# Altium schematic symbol library Transistor_FET.SchLib: 598 symbols (part 5 of 6)
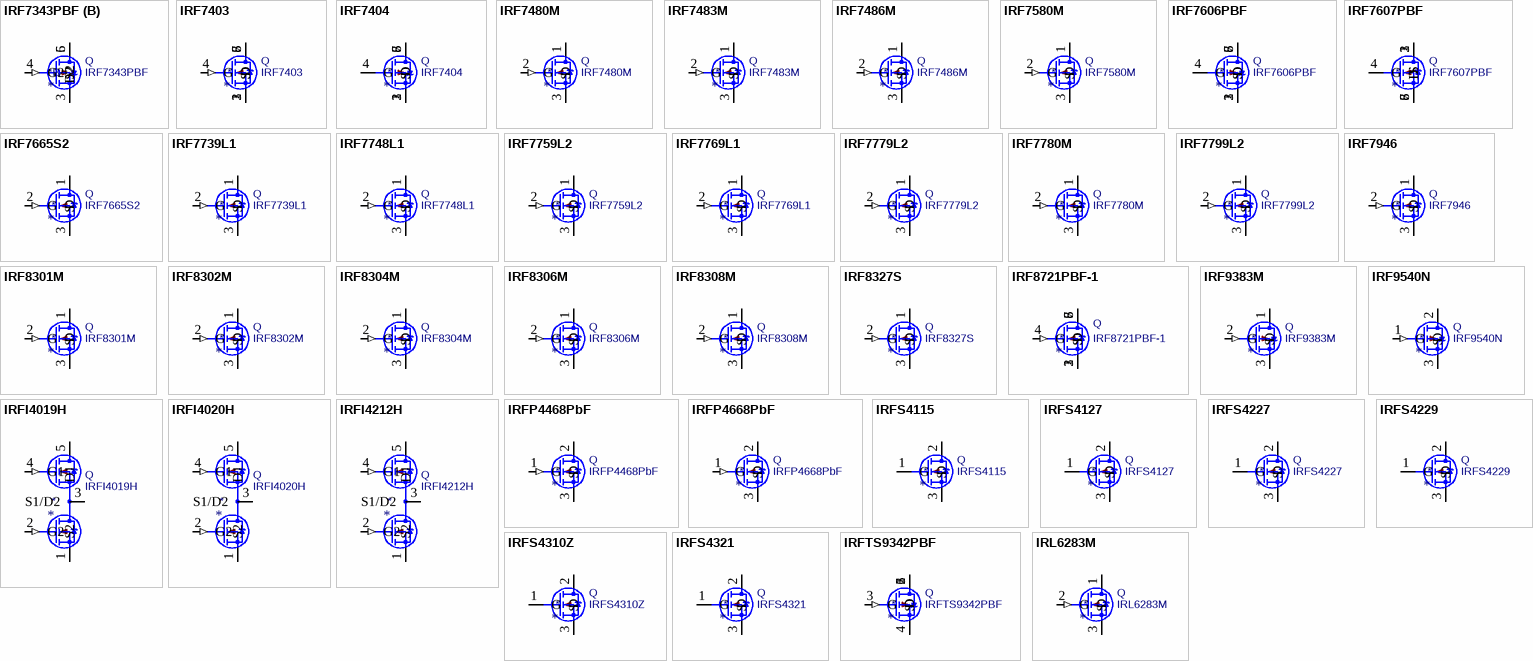
[diagram p20: symbols IRF7343PBF to IRL6283M]

## IRFS4321
designator *  value IRFS4321  Reference: Q
85A Id, 150V Vds, 12mOhm Rds, N-Channel HEXFET Power MOSFET, D2PAK; ki_keywords: N-Channel MOSFET HEXFET; ki_fp_filters: TO?263*; Footprint: Package_TO_SOT_SMD:TO-263-2; Datasheet: https://www.infineon.com/dgdl/irfs4321pbf.pdf?fileId=5546d462533600a40153563a20dd21ad; Description_: 85A Id, 150V Vds, 12mOhm Rds, N-Channel HEXFET Power MOSFET, D2PAK
pins: 1 G, 2 D, 3 S

## IRFTS9342PBF
designator *  value IRFTS9342PBF  Reference: Q
-5.8A Id, -30V Vds, 40mOhm Rds, P-Channel HEXFET Power MOSFET, TSOP-6; ki_keywords: P-Channel MOSFET HEXFET; ki_fp_filters: TSOP*1.65x3.05mm*P0.95mm*; Footprint: Package_SO:TSOP-6_1.65x3.05mm_P0.95mm; Datasheet: https://www.infineon.com/dgdl/irfts9342pbf.pdf?fileId=5546d462533600a40153563aeabc21f3; Description_: -5.8A Id, -30V Vds, 40mOhm Rds, P-Channel HEXFET Power MOSFET, TSOP-6
pins: 1 D, 2 D, 3 G (in), 4 S, 5 D, 6 D

## IRL6283M
designator *  value IRL6283M  Reference: Q
38A Id, 20V Vds, 0.75mOhm Rds, N-Channel HEXFET Power MOSFET, DirectFET MD; ki_keywords: N-Channel HEXFET MOSFET IRFET; ki_fp_filters: DirectFET*MD*; Footprint: Package_DirectFET:DirectFET_MD; Datasheet: https://www.infineon.com/dgdl/irl6283mpbf.pdf?fileId=5546d462533600a40153565fe9452573; Description_: 38A Id, 20V Vds, 0.75mOhm Rds, N-Channel HEXFET Power MOSFET, DirectFET MD
pins: 1 D, 2 G (in), 3 S

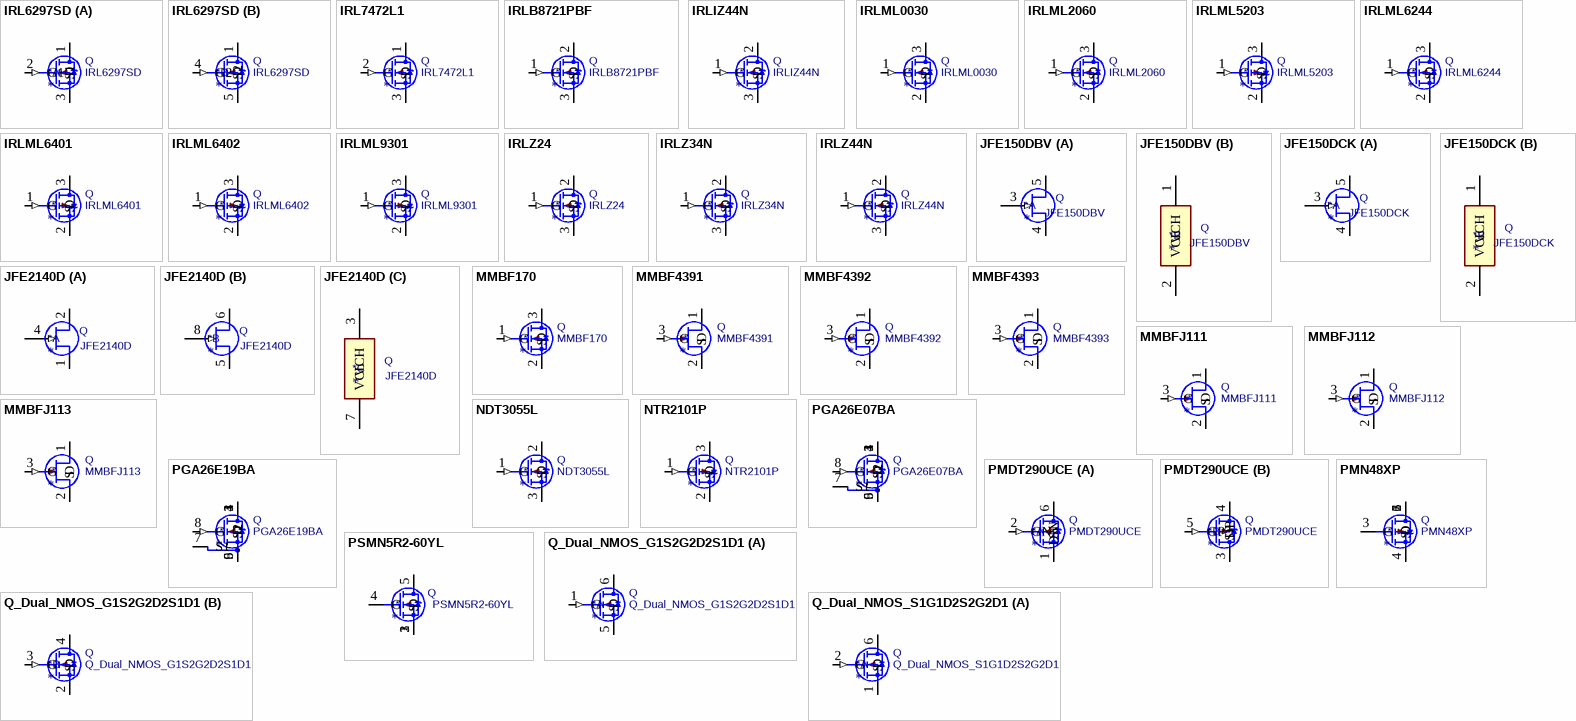
[diagram p12: symbols IRL6297SD to Q_Dual_NMOS_S1G1D2S2G2D1]

## IRL6297SD
designator *  value IRL6297SD  Reference: Q
15A Id, 20V Vds, 4.9mOhm Rds, Dual N-Channel HEXFET Power MOSFET, DirectFET SA; ki_keywords: Dual N-Channel HEXFET MOSFET Logic-Level; ki_fp_filters: DirectFET*SA*; Footprint: Package_DirectFET:DirectFET_SA; Datasheet: https://www.infineon.com/dgdl/irl6297sdpbf.pdf?fileId=5546d462533600a40153565ff22f2575; Description_: 15A Id, 20V Vds, 4.9mOhm Rds, Dual N-Channel HEXFET Power MOSFET, DirectFET SA
part A pins: 1 D, 2 G1 (in), 3 S1
part B pins: 1 D, 4 G2 (in), 5 S2

## IRL7472L1
designator *  value IRL7472L1  Reference: Q
375A Id, 40V Vds, 0.45mOhm Rds, N-Channel HEXFET Power MOSFET, DirectFET L8; ki_keywords: N-Channel HEXFET MOSFET Logic-Level IRFET; ki_fp_filters: DirectFET*L8*; Footprint: Package_DirectFET:DirectFET_L8; Datasheet: https://www.infineon.com/dgdl/Infineon-IRL7472L1-DS-v02_00-EN.pdf?fileId=5546d46254e133b401555d17178250d8; Description_: 375A Id, 40V Vds, 0.45mOhm Rds, N-Channel HEXFET Power MOSFET, DirectFET L8
pins: 1 D, 2 G (in), 3 S

## IRLB8721PBF
designator *  value IRLB8721PBF  Reference: Q
62A Id, 30V Vds, 8.7 mOhm Rds, N-Channel HEXFET Power MOSFET, TO-220; ki_keywords: N-Channel HEXFET MOSFET Logic-Level; ki_fp_filters: TO?220*; Footprint: Package_TO_SOT_THT:TO-220-3_Vertical; Datasheet: http://www.infineon.com/dgdl/irlb8721pbf.pdf?fileId=5546d462533600a40153566056732591; Description_: 62A Id, 30V Vds, 8.7 mOhm Rds, N-Channel HEXFET Power MOSFET, TO-220
pins: 1 G (in), 2 D, 3 S

## IRLIZ44N
designator *  value IRLIZ44N  Reference: Q
30A Id, 55V Vds, 22mOhm Rds, N-Channel HEXFET Power MOSFET, TO-220AB; ki_keywords: N-Channel HEXFET MOSFET Logic-Level; ki_fp_filters: TO?220F*; Footprint: Package_TO_SOT_THT:TO-220F-3_Vertical; Datasheet: http://www.irf.com/product-info/datasheets/data/irliz44n.pdf; Description_: 30A Id, 55V Vds, 22mOhm Rds, N-Channel HEXFET Power MOSFET, TO-220AB
pins: 1 G (in), 2 D, 3 S

## IRLML0030
designator *  value IRLML0030  Reference: Q
5.3A Id, 30V Vds, 27mOhm Rds, N-Channel HEXFET Power MOSFET, SOT-23; ki_keywords: N-Channel HEXFET MOSFET Logic-Level; ki_fp_filters: SOT?23*; Footprint: Package_TO_SOT_SMD:SOT-23; Datasheet: https://www.infineon.com/dgdl/irlml0030pbf.pdf?fileId=5546d462533600a401535664773825df; Description_: 5.3A Id, 30V Vds, 27mOhm Rds, N-Channel HEXFET Power MOSFET, SOT-23
pins: 1 G (in), 2 S, 3 D

## IRLML2060
designator *  value IRLML2060  Reference: Q
1.2A Id, 60V Vds, 480mOhm Rds, N-Channel HEXFET Power MOSFET, SOT-23; ki_keywords: N-Channel HEXFET MOSFET; ki_fp_filters: SOT?23*; Footprint: Package_TO_SOT_SMD:SOT-23; Datasheet: https://www.infineon.com/dgdl/irlml2060pbf.pdf?fileId=5546d462533600a401535664b7fb25ee; Description_: 1.2A Id, 60V Vds, 480mOhm Rds, N-Channel HEXFET Power MOSFET, SOT-23
pins: 1 G (in), 2 S, 3 D

## IRLML5203
designator *  value IRLML5203  Reference: Q
-3.0A Id, -30V Vds, 98mOhm Rds, P-Channel HEXFET Power MOSFET, SOT-23; ki_keywords: P-Channel HEXFET MOSFET; ki_fp_filters: SOT?23*; Footprint: Package_TO_SOT_SMD:SOT-23; Datasheet: https://www.infineon.com/dgdl/irlml5203pbf.pdf?fileId=5546d462533600a40153566868da261d; Description_: -3.0A Id, -30V Vds, 98mOhm Rds, P-Channel HEXFET Power MOSFET, SOT-23
pins: 1 G (in), 2 S, 3 D

## IRLML6244
designator *  value IRLML6244  Reference: Q
6.3A Id, 20V Vds, 21mOhm Rds, N-Channel StrongIRFET Power MOSFET, SOT-23; ki_keywords: N-Channel StrongIRFET MOSFET Load switch; ki_fp_filters: SOT?23*; Footprint: Package_TO_SOT_SMD:SOT-23; Datasheet: https://www.infineon.com/dgdl/Infineon-IRLML6244-DataSheet-v01_01-EN.pdf?fileId=5546d462533600a4015356686fed261f; Description_: 6.3A Id, 20V Vds, 21mOhm Rds, N-Channel StrongIRFET Power MOSFET, SOT-23
pins: 1 G (in), 2 S, 3 D

## IRLML6401
designator *  value IRLML6401  Reference: Q
-4.3A Id, -12V Vds, 50mOhm Rds, P-Channel HEXFET Power MOSFET, SOT-23; ki_keywords: P-Channel HEXFET MOSFET Logic-Level; ki_fp_filters: SOT?23*; Footprint: Package_TO_SOT_SMD:SOT-23; Datasheet: https://www.infineon.com/dgdl/irlml6401pbf.pdf?fileId=5546d462533600a401535668b96d2634; Description_: -4.3A Id, -12V Vds, 50mOhm Rds, P-Channel HEXFET Power MOSFET, SOT-23
pins: 1 G (in), 2 S, 3 D

## IRLML6402
designator *  value IRLML6402  Reference: Q
-3.7A Id, -20V Vds, 65mOhm Rds, P-Channel HEXFET Power MOSFET, SOT-23; ki_keywords: P-Channel HEXFET MOSFET; ki_fp_filters: SOT?23*; Footprint: Package_TO_SOT_SMD:SOT-23; Datasheet: https://www.infineon.com/dgdl/irlml6402pbf.pdf?fileId=5546d462533600a401535668d5c2263c; Description_: -3.7A Id, -20V Vds, 65mOhm Rds, P-Channel HEXFET Power MOSFET, SOT-23
pins: 1 G (in), 2 S, 3 D

## IRLML9301
designator *  value IRLML9301  Reference: Q
-3.6A Id, -30V Vds, 64mOhm Rds, P-Channel HEXFET Power MOSFET, SOT-23; ki_keywords: P-Channel HEXFET MOSFET Logic-Level; ki_fp_filters: SOT?23*; Footprint: Package_TO_SOT_SMD:SOT-23; Datasheet: https://www.infineon.com/dgdl/irlml9301pbf.pdf?fileId=5546d462533600a401535668e5e42640; Description_: -3.6A Id, -30V Vds, 64mOhm Rds, P-Channel HEXFET Power MOSFET, SOT-23
pins: 1 G (in), 2 S, 3 D

## IRLZ24
designator *  value IRLZ24  Reference: Q
17A Id, 60V Vds, N-Channel Power MOSFET, TO-220AB; ki_fp_filters: TO?220*; Footprint: Package_TO_SOT_THT:TO-220-3_Vertical; Datasheet: https://www.vishay.com/docs/91326/sihlz24.pdf; Description_: 17A Id, 60V Vds, N-Channel Power MOSFET, TO-220AB; ki_keywords: N-Channel Power MOSFET
pins: 1 G (in), 2 D, 3 S

## IRLZ34N
designator *  value IRLZ34N  Reference: Q
30A Id, 55V Vds, 35mOhm Rds, N-Channel HEXFET Power MOSFET, TO-220AB; ki_keywords: N-Channel HEXFET MOSFET Logic-Level; ki_fp_filters: TO?220*; Footprint: Package_TO_SOT_THT:TO-220-3_Vertical; Datasheet: http://www.infineon.com/dgdl/irlz34npbf.pdf?fileId=5546d462533600a40153567206892720; Description_: 30A Id, 55V Vds, 35mOhm Rds, N-Channel HEXFET Power MOSFET, TO-220AB
pins: 1 G (in), 2 D, 3 S

## IRLZ44N
designator *  value IRLZ44N  Reference: Q
47A Id, 55V Vds, 22mOhm Rds Single N-Channel HEXFET Power MOSFET, TO-220AB; ki_keywords: N-Channel HEXFET MOSFET Logic-Level; ki_fp_filters: TO?220*; Footprint: Package_TO_SOT_THT:TO-220-3_Vertical; Datasheet: http://www.irf.com/product-info/datasheets/data/irlz44n.pdf; Description_: 47A Id, 55V Vds, 22mOhm Rds Single N-Channel HEXFET Power MOSFET, TO-220AB
pins: 1 G (in), 2 D, 3 S

## JFE150DBV
designator *  value JFE150DBV  Reference: Q
Ultra-Low-Noise, Low-Gate-Current, Audio, N-Channel JFET, SOT-23-5; ki_keywords: low noise n-channel jfet; ki_fp_filters: SOT?23?5*; Footprint: Package_TO_SOT_SMD:SOT-23-5; Datasheet: https://www.ti.com/lit/ds/symlink/jfe150.pdf; Description_: Ultra-Low-Noise, Low-Gate-Current, Audio, N-Channel JFET, SOT-23-5
part A pins: 3 (in), 4, 5
part B pins: 1 VCH, 2 VCL

## JFE150DCK
designator *  value JFE150DCK  Reference: Q
Ultra-Low-Noise, Low-Gate-Current, Audio, N-Channel JFET, SC-70-5; ki_keywords: low noise n-channel jfet; ki_fp_filters: *SC?70?5*; Footprint: Package_TO_SOT_SMD:SOT-353_SC-70-5; Datasheet: https://www.ti.com/lit/ds/symlink/jfe150.pdf; Description_: Ultra-Low-Noise, Low-Gate-Current, Audio, N-Channel JFET, SC-70-5
part A pins: 3 (in), 4, 5
part B pins: 1 VCH, 2 VCL

## JFE2140D
designator *  value JFE2140D  Reference: Q
Ultra-Low Noise, Matched, Dual, Low-Gate Current, Discrete, Audio, N‑Channel JFET, SOIC-8; ki_keywords: low noise n-channel dual matched jfet; ki_fp_filters: SOIC?8*3.9x4.9mm*P1.27mm*; Footprint: Package_SO:SOIC-8_3.9x4.9mm_P1.27mm; Datasheet: https://www.ti.com/lit/ds/symlink/jfe2140.pdf; Description_: Ultra-Low Noise, Matched, Dual, Low-Gate Current, Discrete, Audio, N‑Channel JFET, SOIC-8
part A pins: 1, 2, 4 (in)
part B pins: 5, 6, 8 (in)
part C pins: 3 VCH, 7 VCL

## MMBF170
designator *  value MMBF170  Reference: Q
0.5A Id, 60V Vds, N-Channel MOSFET, SOT-23; ki_fp_filters: SOT?23*; Footprint: Package_TO_SOT_SMD:SOT-23; Datasheet: https://www.diodes.com/assets/Datasheets/ds30104.pdf; Description_: 0.5A Id, 60V Vds, N-Channel MOSFET, SOT-23; ki_keywords: N-Channel MOSFET
pins: 1 G (in), 2 S, 3 D

## MMBF4391
designator *  value MMBF4391  Reference: Q
50mA min, 30V, 30mOhm max, 4-10V Vgs(off), N-Channel JFET, SOT-23; ki_keywords: N-Channel FET Transistor; ki_fp_filters: SOT?23*; Footprint: Package_TO_SOT_SMD:SOT-23; Datasheet: https://www.onsemi.com/pub/Collateral/MMBF4391LT1-D.PDF; Description_: 50mA min, 30V, 30mOhm max, 4-10V Vgs(off), N-Channel JFET, SOT-23
pins: 1 D, 2 S, 3 G (in)

## MMBF4392
designator *  value MMBF4392  Reference: Q
25mA min, 30V, 60mOhm max, 2-5V Vgs(off), N-Channel JFET, SOT-23; ki_keywords: N-Channel FET Transistor; ki_fp_filters: SOT?23*; Footprint: Package_TO_SOT_SMD:SOT-23; Datasheet: https://www.onsemi.com/pub/Collateral/MMBF4391LT1-D.PDF; Description_: 25mA min, 30V, 60mOhm max, 2-5V Vgs(off), N-Channel JFET, SOT-23
pins: 1 D, 2 S, 3 G (in)

## MMBF4393
designator *  value MMBF4393  Reference: Q
5mA min, 30V, 100mOhm max, 0.5-3V Vgs(off), N-Channel JFET, SOT-23; ki_keywords: N-Channel FET Transistor; ki_fp_filters: SOT?23*; Footprint: Package_TO_SOT_SMD:SOT-23; Datasheet: https://www.onsemi.com/pub/Collateral/MMBF4391LT1-D.PDF; Description_: 5mA min, 30V, 100mOhm max, 0.5-3V Vgs(off), N-Channel JFET, SOT-23
pins: 1 D, 2 S, 3 G (in)

## MMBFJ111
designator *  value MMBFJ111  Reference: Q
20mA min, 35V, 30mOhm max, 3-10V Vgs(off), N-Channel JFET, SOT-23; ki_keywords: N-Channel FET Transistor; ki_fp_filters: SOT?23*; Footprint: Package_TO_SOT_SMD:SOT-23; Datasheet: https://www.onsemi.com/pub/Collateral/MMBFJ113-D.PDF; Description_: 20mA min, 35V, 30mOhm max, 3-10V Vgs(off), N-Channel JFET, SOT-23
pins: 1 D, 2 S, 3 G (in)

## MMBFJ112
designator *  value MMBFJ112  Reference: Q
5mA min, 35V, 50mOhm max, 1-5V Vgs(off), N-Channel JFET, SOT-23; ki_keywords: N-Channel FET Transistor; ki_fp_filters: SOT?23*; Footprint: Package_TO_SOT_SMD:SOT-23; Datasheet: https://www.onsemi.com/pub/Collateral/MMBFJ113-D.PDF; Description_: 5mA min, 35V, 50mOhm max, 1-5V Vgs(off), N-Channel JFET, SOT-23
pins: 1 D, 2 S, 3 G (in)

## MMBFJ113
designator *  value MMBFJ113  Reference: Q
2mA min, 35V, 100mOhm max, 0.5-3V Vgs(off), N-Channel JFET, SOT-23; ki_keywords: N-Channel FET Transistor; ki_fp_filters: SOT?23*; Footprint: Package_TO_SOT_SMD:SOT-23; Datasheet: https://www.onsemi.com/pub/Collateral/MMBFJ113-D.PDF; Description_: 2mA min, 35V, 100mOhm max, 0.5-3V Vgs(off), N-Channel JFET, SOT-23
pins: 1 D, 2 S, 3 G (in)

## NDT3055L
designator *  value NDT3055L  Reference: Q
4A Id, 60V Vds, N-Channel Logic Level Enhancement Mode MOSFET, SOT-223; ki_keywords: n channel fet; ki_fp_filters: SOT?223*; Footprint: Package_TO_SOT_SMD:SOT-223-3_TabPin2; Datasheet: https://www.onsemi.com/pdf/datasheet/ndt3055l-d.pdf; Description_: 4A Id, 60V Vds, N-Channel Logic Level Enhancement Mode MOSFET, SOT-223
pins: 1 G (in), 2 D, 3 S

## NTR2101P
designator *  value NTR2101P  Reference: Q
-3.7A Id, -8V Vds, P-Channel MOSFET, SOT-23; ki_fp_filters: SOT?23*; Footprint: Package_TO_SOT_SMD:SOT-23; Datasheet: http://www.onsemi.com/pub/Collateral/NTR2101P-D.PDF; Description_: -3.7A Id, -8V Vds, P-Channel MOSFET, SOT-23; ki_keywords: P-Channel MOSFET
pins: 1 G (in), 2 S, 3 D

## PGA26E07BA
designator *  value PGA26E07BA  Reference: Q
26A Id, 600V Vds, 56mOhm, N-Channel GaN MOSFET, DFN-8; ki_fp_filters: Panasonic*HSON*8x8mm*P2.00mm*; Footprint: Package_DFN_QFN:Panasonic_HSON-8_8x8mm_P2.00mm; Datasheet: https://industrial.panasonic.com/content/data/SC/ds/ds4/PGA26E07BA_E.pdf; Description_: 26A Id, 600V Vds, 56mOhm, N-Channel GaN MOSFET, DFN-8; ki_keywords: N-Channel GaN MOSFET
pins: 1 D, 2 D, 3 D, 4 D, 5 S2, 6 S2, 7 S1, 8 G (in), 9 S2

## PGA26E19BA
designator *  value PGA26E19BA  Reference: Q
13A Id, 600V Vds, 140mOhm, N-Channel GaN MOSFET, DFN-8; ki_fp_filters: Panasonic*HSON*8x8mm*P2.00mm*; Footprint: Package_DFN_QFN:Panasonic_HSON-8_8x8mm_P2.00mm; Datasheet: https://industrial.panasonic.com/content/data/SC/ds/ds4/PGA26E19BA_E.pdf; Description_: 13A Id, 600V Vds, 140mOhm, N-Channel GaN MOSFET, DFN-8; ki_keywords: N-Channel GaN MOSFET
pins: 1 D, 2 D, 3 D, 4 D, 5 S2, 6 S2, 7 S1, 8 G (in), 9 S2

## PMDT290UCE
designator *  value PMDT290UCE  Reference: Q
Nexperia 20 / 20 V, 800 / 550 mA N/P-channel Trench MOSFET, SOT-666; ki_keywords: Trench MOSFET complementary nmos pmos nexperia; ki_fp_filters: SOT?666*; Footprint: Package_TO_SOT_SMD:SOT-666; Datasheet: https://assets.nexperia.com/documents/data-sheet/PMDT290UCE.pdf; Description_: Nexperia 20 / 20 V, 800 / 550 mA N/P-channel Trench MOSFET, SOT-666
part A pins: 1 SN, 2 GN (in), 6 DN
part B pins: 3 DP, 4 SP, 5 GP (in)

## PMN48XP
designator *  value PMN48XP  Reference: Q
-4.1A Id, -20V Vds, P-Channel Power MOSFET, 48mOhm Ron, TSOP-6; ki_keywords: P-Channel MOSFET; ki_fp_filters: TSOP*1.65x3.05mm*P0.95mm*; Footprint: Package_SO:TSOP-6_1.65x3.05mm_P0.95mm; Datasheet: https://assets.nexperia.com/documents/data-sheet/PMN48XP.pdf; Description_: -4.1A Id, -20V Vds, P-Channel Power MOSFET, 48mOhm Ron, TSOP-6
pins: 1 D, 2 D, 3 G, 4 S, 5 D, 6 D

## PSMN5R2-60YL
designator *  value PSMN5R2-60YL  Reference: Q
100A, 60V Vds, N-Channel MOSFET, 5.2mOhm Ron, LFPAK56; ki_fp_filters: LFPAK56*; Footprint: Package_TO_SOT_SMD:LFPAK56; Datasheet: https://assets.nexperia.com/documents/data-sheet/PSMN5R2-60YL.pdf; Description_: 100A, 60V Vds, N-Channel MOSFET, 5.2mOhm Ron, LFPAK56; ki_keywords: N-Channel MOSFET
pins: 1 S, 2 S, 3 S, 4 G, 5 D

## Q_Dual_NMOS_G1S2G2D2S1D1
designator *  value Q_Dual_NMOS_G1S2G2D2S1D1  Reference: Q
Dual NMOS transistor, 6 pin package; ki_keywords: transistor NMOS N-MOS N-MOSFET; Datasheet: ~; Description_: Dual NMOS transistor, 6 pin package
part A pins: 1 G (in), 5 S, 6 D
part B pins: 2 S, 3 G (in), 4 D

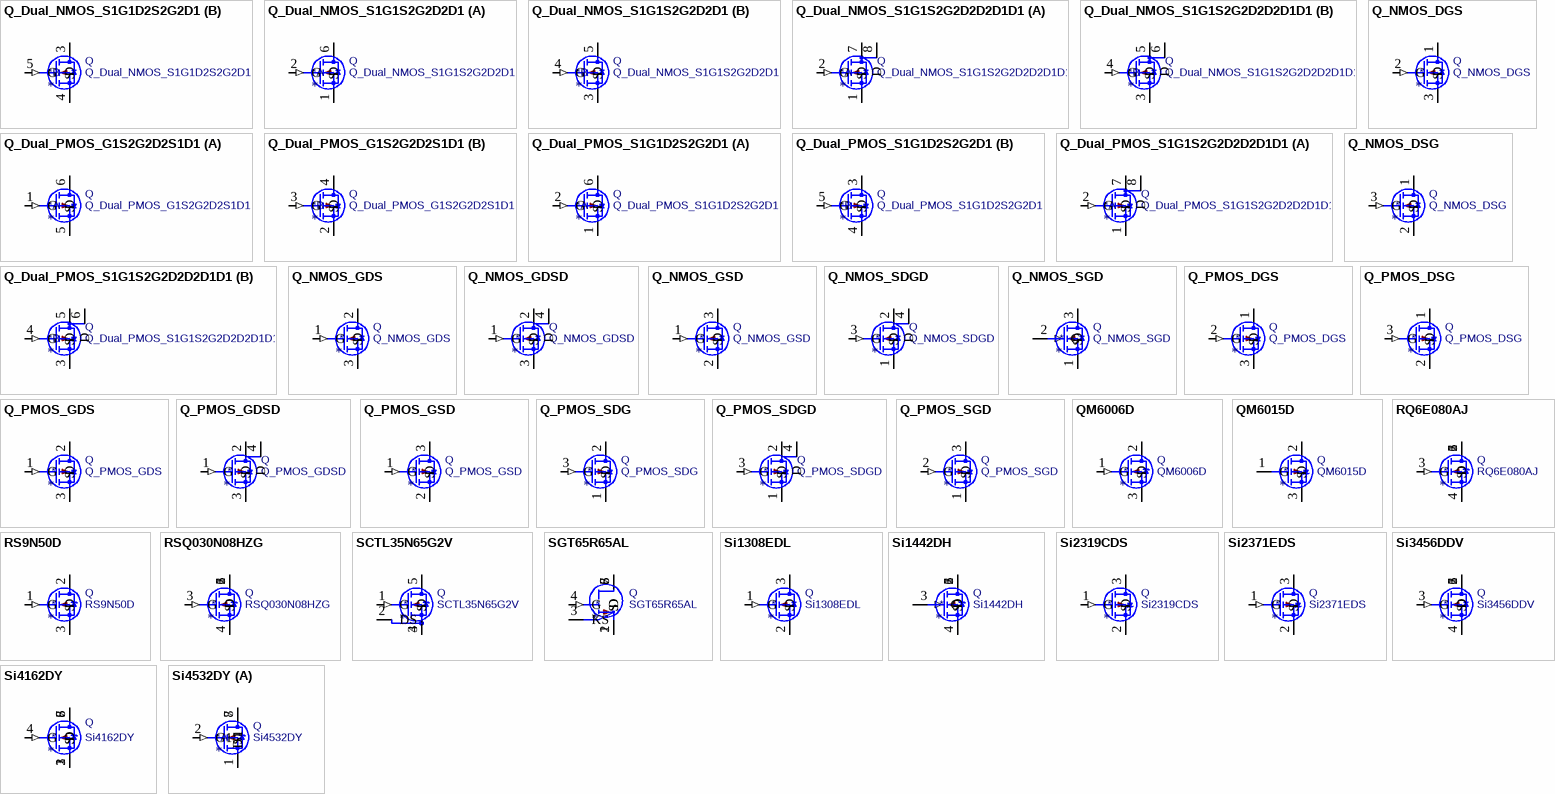
[diagram p13: symbols Q_Dual_NMOS_S1G1D2S2G2D1 to Si4532DY]

## Q_Dual_NMOS_S1G1D2S2G2D1
designator *  value Q_Dual_NMOS_S1G1D2S2G2D1  Reference: Q
Dual NMOS transistor, 6 pin package; ki_keywords: transistor NMOS N-MOS N-MOSFET; Datasheet: ~; Description_: Dual NMOS transistor, 6 pin package
part A pins: 1 S, 2 G (in), 6 D
part B pins: 3 D, 4 S, 5 G (in)

## Q_Dual_NMOS_S1G1S2G2D2D1
designator *  value Q_Dual_NMOS_S1G1S2G2D2D1  Reference: Q
Dual NMOS transistor, 6 pin package; ki_keywords: transistor NMOS N-MOS N-MOSFET; Datasheet: ~; Description_: Dual NMOS transistor, 6 pin package
part A pins: 1 S, 2 G (in), 6 D
part B pins: 3 S, 4 G (in), 5 D

## Q_Dual_NMOS_S1G1S2G2D2D2D1D1
designator *  value Q_Dual_NMOS_S1G1S2G2D2D2D1D1  Reference: Q
Dual NMOS transistor, 8 pin package; ki_keywords: transistor NMOS N-MOS N-MOSFET; Datasheet: ~; Description_: Dual NMOS transistor, 8 pin package
part A pins: 1 S, 2 G (in), 7 D, 8 D
part B pins: 3 S, 4 G (in), 5 D, 6 D

## Q_Dual_PMOS_G1S2G2D2S1D1
designator *  value Q_Dual_PMOS_G1S2G2D2S1D1  Reference: Q
Dual PMOS transistor, 6 pin package; ki_keywords: transistor PMOS P-MOS P-MOSFET; Datasheet: ~; Description_: Dual PMOS transistor, 6 pin package
part A pins: 1 G (in), 5 S, 6 D
part B pins: 2 S, 3 G (in), 4 D

## Q_Dual_PMOS_S1G1D2S2G2D1
designator *  value Q_Dual_PMOS_S1G1D2S2G2D1  Reference: Q
Dual PMOS transistor, 6 pin package; ki_keywords: transistor PMOS P-MOS P-MOSFET; Datasheet: ~; Description_: Dual PMOS transistor, 6 pin package
part A pins: 1 S, 2 G (in), 6 D
part B pins: 3 D, 4 S, 5 G (in)

## Q_Dual_PMOS_S1G1S2G2D2D2D1D1
designator *  value Q_Dual_PMOS_S1G1S2G2D2D2D1D1  Reference: Q
Dual PMOS transistor, 8 pin package; ki_keywords: transistor PMOS P-MOS P-MOSFET; Datasheet: ~; Description_: Dual PMOS transistor, 8 pin package
part A pins: 1 S, 2 G (in), 7 D, 8 D
part B pins: 3 S, 4 G (in), 5 D, 6 D

## Q_NMOS_DGS
designator *  value Q_NMOS_DGS  Reference: Q
N-MOSFET transistor, drain/gate/source; ki_keywords: transistor NMOS N-MOS N-MOSFET; Datasheet: ~; Description_: N-MOSFET transistor, drain/gate/source
pins: 1 D, 2 G (in), 3 S

## Q_NMOS_DSG
designator *  value Q_NMOS_DSG  Reference: Q
N-MOSFET transistor, drain/source/gate; ki_keywords: transistor NMOS N-MOS N-MOSFET; Datasheet: ~; Description_: N-MOSFET transistor, drain/source/gate
pins: 1 D, 2 S, 3 G (in)

## Q_NMOS_GDS
designator *  value Q_NMOS_GDS  Reference: Q
N-MOSFET transistor, gate/drain/source; ki_keywords: transistor NMOS N-MOS N-MOSFET; Datasheet: ~; Description_: N-MOSFET transistor, gate/drain/source
pins: 1 G (in), 2 D, 3 S

## Q_NMOS_GDSD
designator *  value Q_NMOS_GDSD  Reference: Q
N-MOSFET transistor, gate/drain/source, drain connected to mounting plane; ki_keywords: transistor NMOS N-MOS N-MOSFET; Datasheet: ~; Description_: N-MOSFET transistor, gate/drain/source, drain connected to mounting plane
pins: 1 G (in), 2 D, 3 S, 4 D

## Q_NMOS_GSD
designator *  value Q_NMOS_GSD  Reference: Q
N-MOSFET transistor, gate/source/drain; ki_keywords: transistor NMOS N-MOS N-MOSFET; Datasheet: ~; Description_: N-MOSFET transistor, gate/source/drain
pins: 1 G (in), 2 S, 3 D

## Q_NMOS_SDGD
designator *  value Q_NMOS_SDGD  Reference: Q
N-MOSFET transistor, source/drain/gate, drain connected to mounting plane; ki_keywords: transistor NMOS N-MOS N-MOSFET; Datasheet: ~; Description_: N-MOSFET transistor, source/drain/gate, drain connected to mounting plane
pins: 1 S, 2 D, 3 G (in), 4 D

## Q_NMOS_SGD
designator *  value Q_NMOS_SGD  Reference: Q
N-MOSFET transistor, source/gate/drain; ki_keywords: transistor NMOS N-MOS N-MOSFET; Datasheet: ~; Description_: N-MOSFET transistor, source/gate/drain
pins: 1 S, 2 G (in), 3 D

## Q_PMOS_DGS
designator *  value Q_PMOS_DGS  Reference: Q
P-MOSFET transistor, drain/gate/source; ki_keywords: transistor PMOS P-MOS P-MOSFET; Datasheet: ~; Description_: P-MOSFET transistor, drain/gate/source
pins: 1 D, 2 G (in), 3 S

## Q_PMOS_DSG
designator *  value Q_PMOS_DSG  Reference: Q
P-MOSFET transistor, drain/source/gate; ki_keywords: transistor PMOS P-MOS P-MOSFET; Datasheet: ~; Description_: P-MOSFET transistor, drain/source/gate
pins: 1 D, 2 S, 3 G (in)

## Q_PMOS_GDS
designator *  value Q_PMOS_GDS  Reference: Q
P-MOSFET transistor, gate/drain/source; ki_keywords: transistor PMOS P-MOS P-MOSFET; Datasheet: ~; Description_: P-MOSFET transistor, gate/drain/source
pins: 1 G (in), 2 D, 3 S

## Q_PMOS_GDSD
designator *  value Q_PMOS_GDSD  Reference: Q
P-MOSFET transistor, gate/drain/source, drain connected to mounting plane; ki_keywords: transistor PMOS P-MOS P-MOSFET; Datasheet: ~; Description_: P-MOSFET transistor, gate/drain/source, drain connected to mounting plane
pins: 1 G (in), 2 D, 3 S, 4 D

## Q_PMOS_GSD
designator *  value Q_PMOS_GSD  Reference: Q
P-MOSFET transistor, gate/source/drain; ki_keywords: transistor PMOS P-MOS P-MOSFET; Datasheet: ~; Description_: P-MOSFET transistor, gate/source/drain
pins: 1 G (in), 2 S, 3 D

## Q_PMOS_SDG
designator *  value Q_PMOS_SDG  Reference: Q
P-MOSFET transistor, source/drain/gate; ki_keywords: transistor PMOS P-MOS P-MOSFET; Datasheet: ~; Description_: P-MOSFET transistor, source/drain/gate
pins: 1 S, 2 D, 3 G (in)

## Q_PMOS_SDGD
designator *  value Q_PMOS_SDGD  Reference: Q
P-MOSFET transistor, source/drain/gate, drain connected to mounting plane; ki_keywords: transistor PMOS P-MOS P-MOSFET; Datasheet: ~; Description_: P-MOSFET transistor, source/drain/gate, drain connected to mounting plane
pins: 1 S, 2 D, 3 G (in), 4 D

## Q_PMOS_SGD
designator *  value Q_PMOS_SGD  Reference: Q
P-MOSFET transistor, source/gate/drain; ki_keywords: transistor PMOS P-MOS P-MOSFET; Datasheet: ~; Description_: P-MOSFET transistor, source/gate/drain
pins: 1 S, 2 G (in), 3 D

## QM6006D
designator *  value QM6006D  Reference: Q
35A Id, 60V Vds, N-Channel Power MOSFET, 18mOhm Ron, 19.3nC Qg (typ), TO252; ki_keywords: N-Channel MOSFET; ki_fp_filters: TO?252*; Footprint: Package_TO_SOT_SMD:TO-252-2; Datasheet: http://www.jaolen.com/images/pdf/QM6006D.pdf; Description_: 35A Id, 60V Vds, N-Channel Power MOSFET, 18mOhm Ron, 19.3nC Qg (typ), TO252
pins: 1 G (in), 2 D, 3 S

## QM6015D
designator *  value QM6015D  Reference: Q
-35A Id, -60V Vds, P-Channel Power MOSFET, 25mOhm Ron, 25.0nC Qg (typ), TO252; ki_keywords: P-Channel MOSFET; ki_fp_filters: TO?252*; Footprint: Package_TO_SOT_SMD:TO-252-2; Datasheet: http://www.jaolen.com/images/pdf/QM6015D.pdf; Description_: -35A Id, -60V Vds, P-Channel Power MOSFET, 25mOhm Ron, 25.0nC Qg (typ), TO252
pins: 1 G, 2 D, 3 S

## RQ6E080AJ
designator *  value RQ6E080AJ  Reference: Q
8A Id, 30V Vds, 16.5 mOhm RdsOn, N-Channel Small-Signal MOSFET, TSOT-23-6; ki_keywords: N-Channel MOSFET Low-Threshold sot-457t sc-95 tsmt6; ki_fp_filters: TSOT?23*; Footprint: Package_TO_SOT_SMD:TSOT-23-6; Datasheet: https://fscdn.rohm.com/en/products/databook/datasheet/discrete/transistor/mosfet/rq6e080ajtcr-e.pdf; Description_: 8A Id, 30V Vds, 16.5 mOhm RdsOn, N-Channel Small-Signal MOSFET, TSOT-23-6
pins: 1 D, 2 D, 3 G (in), 4 S, 5 D, 6 D

## RS9N50D
designator *  value RS9N50D  Reference: Q
9A Id, 500V Vds, N-Channel Power MOSFET, 650mOhm Ron, 22nC Qg (typ), TO252; ki_keywords: NFET high voltage; ki_fp_filters: TO?252*; Footprint: Package_TO_SOT_SMD:TO-252-2; Datasheet: https://www.denovocn.com/sites/default/files/RS9N50D.pdf; Description_: 9A Id, 500V Vds, N-Channel Power MOSFET, 650mOhm Ron, 22nC Qg (typ), TO252
pins: 1 G (in), 2 D, 3 S

## RSQ030N08HZG
designator *  value RSQ030N08HZG  Reference: Q
3A Id, 80V Vds, 131 mOhm RdsOn, N-Channel Small-Signal MOSFET, Body and ESD Diode, TSOT-23-6; ki_keywords: nchan low threshold sot 457t sc 95 tsmt6; ki_fp_filters: TSOT?23*; Footprint: Package_TO_SOT_SMD:TSOT-23-6; Datasheet: https://fscdn.rohm.com/en/products/databook/datasheet/discrete/transistor/mosfet/rsq030n08hzgtr-e.pdf; Description_: 3A Id, 80V Vds, 131 mOhm RdsOn, N-Channel Small-Signal MOSFET, Body and ESD Diode, TSOT-23-6
pins: 1 D, 2 D, 3 G (in), 4 S, 5 D, 6 D

## SCTL35N65G2V
designator *  value SCTL35N65G2V  Reference: Q
Silicon carbide Power MOSFET 650 V, 55 mΩ typ., 40 A, ST_PowerFLAT_HV-5; ki_keywords: N-Channel SiC MOSFET; ki_fp_filters: ST?PowerFLAT?HV*8x8mm*; Footprint: Package_SON:ST_PowerFLAT_HV-5_8x8mm; Datasheet: https://www.st.com/resource/en/datasheet/sctl35n65g2v.pdf; Description_: Silicon carbide Power MOSFET 650 V, 55 mΩ typ., 40 A, ST_PowerFLAT_HV-5
pins: 1 G (in), 2 DS, 3 S, 4 S, 5 D

## SGT65R65AL
designator *  value SGT65R65AL  Reference: Q
650V, 49mΩ typ., 25A Id, enhancement mode PowerGaN transistor, ST_PowerFLAT_HV-8; ki_keywords: gan hemt bottom-side-cooled e-mode kelvin; ki_fp_filters: ST?PowerFLAT?HV*5x6mm*; Footprint: Package_SON:ST_PowerFLAT_HV-8_5x6mm; Datasheet: https://www.st.com/resource/en/datasheet/sgt65r65al.pdf; Description_: 650V, 49mΩ typ., 25A Id, enhancement mode PowerGaN transistor, ST_PowerFLAT_HV-8
pins: 1 S, 2 S, 3 KS, 4 G (in), 5 D, 6 D, 7 D, 8 D

## Si1308EDL
designator *  value Si1308EDL  Reference: Q
30V Vds, 1.4A Id, N-Channel MOSFET, SC-70; ki_fp_filters: SOT?323*; Footprint: Package_TO_SOT_SMD:SOT-323_SC-70; Datasheet: https://www.vishay.com/docs/63399/si1308edl.pdf; Description_: 30V Vds, 1.4A Id, N-Channel MOSFET, SC-70; ki_keywords: N-Channel MOSFET
pins: 1 G (in), 2 S, 3 D

## Si1442DH
designator *  value Si1442DH  Reference: Q
12V Vds, TrenchFET N-Channel Power MOSFET, SC-70-6; ki_fp_filters: SOT?363*; Footprint: Package_TO_SOT_SMD:SOT-363_SC-70-6; Datasheet: http://www.vishay.com/docs/63772/si1442dh.pdf; Description_: 12V Vds, TrenchFET N-Channel Power MOSFET, SC-70-6; ki_keywords: TrenchFET N-Channel Power MOSFET
pins: 1 D, 2 D, 3 G (in), 4 S, 5 D, 6 D

## Si2319CDS
designator *  value Si2319CDS  Reference: Q
-4.4A Id, -40V Vds, P-Channel MOSFET, SOT-23; ki_fp_filters: SOT?23*; Footprint: Package_TO_SOT_SMD:SOT-23; Datasheet: http://www.vishay.com/docs/66709/si2319cd.pdf; Description_: -4.4A Id, -40V Vds, P-Channel MOSFET, SOT-23; ki_keywords: P-Channel MOSFET
pins: 1 G (in), 2 S, 3 D

## Si2371EDS
designator *  value Si2371EDS  Reference: Q
-3.6A Id, -30V Vds, P-Channel MOSFET, SOT-23; ki_fp_filters: SOT?23*; Footprint: Package_TO_SOT_SMD:SOT-23; Datasheet: http://www.vishay.com/docs/63924/si2371eds.pdf; Description_: -3.6A Id, -30V Vds, P-Channel MOSFET, SOT-23; ki_keywords: P-Channel MOSFET
pins: 1 G (in), 2 S, 3 D

## Si3456DDV
designator *  value Si3456DDV  Reference: Q
30V Vds, 6.3A Id, N-Channel MOSFET, TSOP-6; ki_fp_filters: TSOP*1.65x3.05mm*P0.95mm*; Footprint: Package_SO:TSOP-6_1.65x3.05mm_P0.95mm; Datasheet: https://www.vishay.com/docs/69075/si3456ddv.pdf; Description_: 30V Vds, 6.3A Id, N-Channel MOSFET, TSOP-6; ki_keywords: N-Channel MOSFET
pins: 1 D, 2 D, 3 G (in), 4 S, 5 D, 6 D

## Si4162DY
designator *  value Si4162DY  Reference: Q
19.3A Id, 30V Vds, TrenchFET N-Channel Power MOSFET, SO-8; ki_keywords: N-Channel MOSFET; ki_fp_filters: SOIC*3.9x4.9mm*P1.27mm*; Footprint: Package_SO:SOIC-8_3.9x4.9mm_P1.27mm; Datasheet: http://www.vishay.com/docs/68967/si4162dy.pdf; Description_: 19.3A Id, 30V Vds, TrenchFET N-Channel Power MOSFET, SO-8
pins: 1 S, 2 S, 3 S, 4 G (in), 5 D, 6 D, 7 D, 8 D

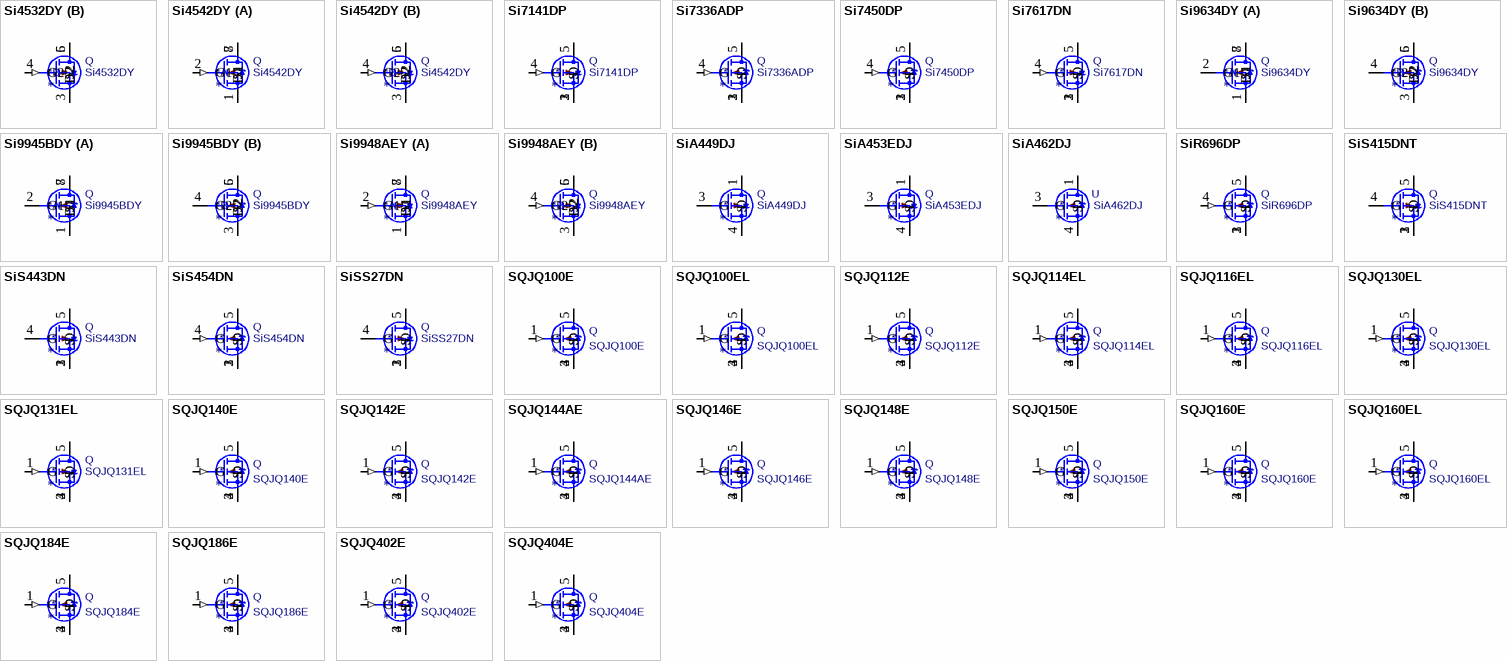
[diagram p14: symbols Si4532DY to SQJQ404E]

## Si4532DY
designator *  value Si4532DY  Reference: Q
3.9A Id, 30V Vds, Dual N and P Channel MOSFET, 65mOhm Ron, 10V Vgs, SO8L; ki_keywords: Dual N-Channel P-Channel MOSFET; ki_fp_filters: SOIC*3.9x4.9mm*P1.27mm*; Footprint: Package_SO:SOIC-8_3.9x4.9mm_P1.27mm; Datasheet: https://www.onsemi.com/pub/Collateral/SI4532DY-D.PDF; Description_: 3.9A Id, 30V Vds, Dual N and P Channel MOSFET, 65mOhm Ron, 10V Vgs, SO8L
part A pins: 1 S1, 2 G1 (in), 7 D1, 8 D1
part B pins: 3 S2, 4 G2 (in), 5 D2, 6 D2

## Si4542DY
designator *  value Si4542DY  Reference: Q
Dual N and P Channel MOSFET, 6A Id, 30V Vds, 28mOhm Ron, 10V Vgs, SO8L; ki_keywords: Dual N-Channel P-Channel MOSFET; ki_fp_filters: SOIC*3.9x4.9mm*P1.27mm*; Footprint: Package_SO:SOIC-8_3.9x4.9mm_P1.27mm; Datasheet: https://www.onsemi.com/pub/Collateral/SI4542DY-D.PDF; Description_: Dual N and P Channel MOSFET, 6A Id, 30V Vds, 28mOhm Ron, 10V Vgs, SO8L
part A pins: 1 S1, 2 G1 (in), 7 D1, 8 D1
part B pins: 3 S2, 4 G2 (in), 5 D2, 6 D2

## Si7141DP
designator *  value Si7141DP  Reference: Q
-60A Id, -20V Vds, 1.9 mOhm Ron, PowerPAK-8; ki_keywords: P-Channel MOSFET; ki_fp_filters: PowerPAK*SO*Single*; Footprint: Package_SO:PowerPAK_SO-8_Single; Datasheet: https://www.vishay.com/docs/65596/si7141dp.pdf; Description_: -60A Id, -20V Vds, 1.9 mOhm Ron, PowerPAK-8
pins: 1 S, 2 S, 3 S, 4 G (in), 5 D

## Si7336ADP
designator *  value Si7336ADP  Reference: Q
30A Id, 30V Vds, 2.4mOhm Ron, PowerPAK-8; ki_keywords: N-Channel MOSFET; ki_fp_filters: PowerPAK*SO*Single*; Footprint: Package_SO:PowerPAK_SO-8_Single; Datasheet: https://www.vishay.com/docs/73152/si7336adp.pdf; Description_: 30A Id, 30V Vds, 2.4mOhm Ron, PowerPAK-8
pins: 1 S, 2 S, 3 S, 4 G (in), 5 D

## Si7450DP
designator *  value Si7450DP  Reference: Q
5.3A Id, 200V Vds, 80mOhm Ron, PowerPAK-8; ki_keywords: N-Channel MOSFET; ki_fp_filters: PowerPAK*SO*Single*; Footprint: Package_SO:PowerPAK_SO-8_Single; Datasheet: https://www.vishay.com/docs/71432/si7450dp.pdf; Description_: 5.3A Id, 200V Vds, 80mOhm Ron, PowerPAK-8
pins: 1 S, 2 S, 3 S, 4 G (in), 5 D

## Si7617DN
designator *  value Si7617DN  Reference: Q
-35A Id, -30V Vds, 0.0123 Ohm Ron, PowerPAK-8; ki_keywords: P-Channel MOSFET; ki_fp_filters: Vishay*PowerPAK*1212*Single*; Footprint: Package_SO:Vishay_PowerPAK_1212-8_Single; Datasheet: https://www.vishay.com/docs/65164/si7617dn.pdf; Description_: -35A Id, -30V Vds, 0.0123 Ohm Ron, PowerPAK-8
pins: 1 S, 2 S, 3 S, 4 G (in), 5 D

## Si9634DY
designator *  value Si9634DY  Reference: Q
Dual N-Channel MOSFET, 8A Id, 60V Vds, 0.029 ohms Rds(on), SOIC-8; ki_keywords: Vishay Siliconix TrenchFET; ki_fp_filters: *SOIC*3.9x4.9mm*P1.27mm*; Footprint: Package_SO:SOIC-8_3.9x4.9mm_P1.27mm; Datasheet: https://www.vishay.com/docs/62114/si9634dy.pdf; Description_: Dual N-Channel MOSFET, 8A Id, 60V Vds, 0.029 ohms Rds(on), SOIC-8
part A pins: 1 S1, 2 G1, 7 D1, 8 D1
part B pins: 3 S2, 4 G2, 5 D2, 6 D2

## Si9945BDY
designator *  value Si9945BDY  Reference: Q
Dual N-Channel MOSFET, 5.3A Id, 60V Vds, 0.058 ohms Rds(on), SOIC-8; ki_keywords: Vishay Siliconix TrenchFET; ki_fp_filters: *SOIC*3.9x4.9mm*P1.27mm*; Footprint: Package_SO:SOIC-8_3.9x4.9mm_P1.27mm; Datasheet: https://www.vishay.com/docs/64737/si9945bdy.pdf; Description_: Dual N-Channel MOSFET, 5.3A Id, 60V Vds, 0.058 ohms Rds(on), SOIC-8
part A pins: 1 S1, 2 G1, 7 D1, 8 D1
part B pins: 3 S2, 4 G2, 5 D2, 6 D2

## Si9948AEY
designator *  value Si9948AEY  Reference: Q
Dual P-Channel MOSFET, ±2.6A Id, -60V Vds, 0.17 ohms Rds(on), SOIC-8; ki_keywords: Vishay Siliconix TrenchFET; ki_fp_filters: *SOIC*3.9x4.9mm*P1.27mm*; Footprint: Package_SO:SOIC-8_3.9x4.9mm_P1.27mm; Datasheet: https://www.mouser.com/datasheet/2/427/si9948ae-1765388.pdf; Description_: Dual P-Channel MOSFET, ±2.6A Id, -60V Vds, 0.17 ohms Rds(on), SOIC-8
part A pins: 1 S1, 2 G1 (in), 7 D1, 8 D1
part B pins: 3 S2, 4 G2 (in), 5 D2, 6 D2

## SiA449DJ
designator *  value SiA449DJ  Reference: Q
-12A Id, -30V Vds, P-Channel MOSFET, PowerPAK SC70-6; ki_fp_filters: Vishay*PowerPAK*SC70*Single*; Footprint: Package_TO_SOT_SMD:Vishay_PowerPAK_SC70-6L_Single; Datasheet: http://www.vishay.com/docs/62644/sia449dj.pdf; Description_: -12A Id, -30V Vds, P-Channel MOSFET, PowerPAK SC70-6; ki_keywords: P-Channel MOSFET
pins: 1 D, 3 G, 4 S

## SiA453EDJ
designator *  value SiA453EDJ  Reference: Q
-10A Id, -30V Vds, P-Channel MOSFET; ki_fp_filters: Vishay*PowerPAK*SC70*Single*; Footprint: Package_TO_SOT_SMD:Vishay_PowerPAK_SC70-6L_Single; Datasheet: http://www.vishay.com/docs/62864/sia453edj.pdf; Description_: -10A Id, -30V Vds, P-Channel MOSFET; ki_keywords: P-Channel MOSFET
pins: 1 D, 3 G, 4 S

## SiA462DJ
designator *  value SiA462DJ  Reference: U
12A Id, 30V Vds, N-Channel MOSFET, Rds 18mΩ PowerPAK, SC70-6; ki_keywords: NMOS NFET Vishay; ki_fp_filters: Vishay*PowerPAK*SC70*Single*; Footprint: Package_TO_SOT_SMD:Vishay_PowerPAK_SC70-6L_Single; Datasheet: https://www.vishay.com/docs/63269/sia462dj.pdf; Description_: 12A Id, 30V Vds, N-Channel MOSFET, Rds 18mΩ PowerPAK, SC70-6
pins: 1 D, 3 G, 4 S

## SiR696DP
designator *  value SiR696DP  Reference: Q
60A Id, 125V Vds N-Channel MOSFET, 9.6mOhm Ron, 19.4 nC Qg(typ), PowerPAK-8; ki_keywords: NMOS NFET Vishay; ki_fp_filters: PowerPAK*SO*Single*; Footprint: Package_SO:PowerPAK_SO-8_Single; Datasheet: https://www.vishay.com/docs/65689/sir696dp.pdf; Description_: 60A Id, 125V Vds N-Channel MOSFET, 9.6mOhm Ron, 19.4 nC Qg(typ), PowerPAK-8
pins: 1 S, 2 S, 3 S, 4 G (in), 5 D

## SiS415DNT
designator *  value SiS415DNT  Reference: Q
-35A Id, -20V Vds, P-Channel MOSFET, PowerPAK 1212-8 Single; ki_fp_filters: Vishay*PowerPAK*1212*Single*; Footprint: Package_SO:Vishay_PowerPAK_1212-8_Single; Datasheet: https://www.vishay.com/docs/63684/sis415dnt.pdf; Description_: -35A Id, -20V Vds, P-Channel MOSFET, PowerPAK 1212-8 Single; ki_keywords: P-Channel MOSFET
pins: 1 S, 2 S, 3 S, 4 G, 5 D

## SiS443DN
designator *  value SiS443DN  Reference: Q
-35A Id, -40V Vds, P-Channel MOSFET, PowerPAK 1212-8 Single; ki_fp_filters: Vishay*PowerPAK*1212*Single*; Footprint: Package_SO:Vishay_PowerPAK_1212-8_Single; Datasheet: https://www.vishay.com/docs/63253/sis443dn.pdf; Description_: -35A Id, -40V Vds, P-Channel MOSFET, PowerPAK 1212-8 Single; ki_keywords: P-Channel MOSFET
pins: 1 S, 2 S, 3 S, 4 G, 5 D

## SiS454DN
designator *  value SiS454DN  Reference: Q
35A Id, 20V Vds, N-Channel MOSFET, PowerPAK 1212-8 Single; ki_fp_filters: Vishay*PowerPAK*1212*Single*; Footprint: Package_SO:Vishay_PowerPAK_1212-8_Single; Datasheet: https://www.vishay.com/docs/66707/sis454dn.pdf; Description_: 35A Id, 20V Vds, N-Channel MOSFET, PowerPAK 1212-8 Single; ki_keywords: N-Channel MOSFET
pins: 1 S, 2 S, 3 S, 4 G (in), 5 D

## SiSS27DN
designator *  value SiSS27DN  Reference: Q
-50A Id, -30V Vds, P-Channel MOSFET, PowerPAK 1212-8 Single; ki_fp_filters: Vishay*PowerPAK*1212*Single*; Footprint: Package_SO:Vishay_PowerPAK_1212-8_Single; Datasheet: http://www.vishay.com/docs/62847/siss27dn.pdf; Description_: -50A Id, -30V Vds, P-Channel MOSFET, PowerPAK 1212-8 Single; ki_keywords: P-Channel MOSFET
pins: 1 S, 2 S, 3 S, 4 G, 5 D

## SQJQ100E
designator *  value SQJQ100E  Reference: Q
200A Id, 40V Vds, N-Channel TrenchFET MOSFET, 1.5mOhm Ron, 13nC Qqd, -55 to 175 °C, LFPAK88; ki_keywords: Power MOSFET N-MOS Automotive AEC-Q101 PowerPAK 8x8L; ki_fp_filters: LFPAK88*; Footprint: Package_TO_SOT_SMD:LFPAK88; Datasheet: https://www.vishay.com/docs/71828/sqjq100e.pdf; Description_: 200A Id, 40V Vds, N-Channel TrenchFET MOSFET, 1.5mOhm Ron, 13nC Qqd, -55 to 175 °C, LFPAK88
pins: 1 G (in), 2 S, 3 S, 4 S, 5 D

## SQJQ100EL
designator *  value SQJQ100EL  Reference: Q
200A Id, 40V Vds, N-Channel TrenchFET MOSFET, 1.5mOhm Ron, 20nC Qqd, -55 to 175 °C, LFPAK88; ki_keywords: Power MOSFET N-MOS Automotive AEC-Q101 Logic-Level PowerPAK 8x8L; ki_fp_filters: LFPAK88*; Footprint: Package_TO_SOT_SMD:LFPAK88; Datasheet: https://www.vishay.com/docs/68443/sqjq100el.pdf; Description_: 200A Id, 40V Vds, N-Channel TrenchFET MOSFET, 1.5mOhm Ron, 20nC Qqd, -55 to 175 °C, LFPAK88
pins: 1 G (in), 2 S, 3 S, 4 S, 5 D

## SQJQ112E
designator *  value SQJQ112E  Reference: Q
296A Id, 100V Vds, N-Channel TrenchFET MOSFET, 2.53mOhm Ron, 37nC Qqd, -55 to 175 °C, LFPAK88; ki_keywords: Power MOSFET N-MOS Automotive AEC-Q101 PowerPAK 8x8L; ki_fp_filters: LFPAK88*; Footprint: Package_TO_SOT_SMD:LFPAK88; Datasheet: https://www.vishay.com/docs/79384/sqjq112e.pdf; Description_: 296A Id, 100V Vds, N-Channel TrenchFET MOSFET, 2.53mOhm Ron, 37nC Qqd, -55 to 175 °C, LFPAK88
pins: 1 G (in), 2 S, 3 S, 4 S, 5 D

## SQJQ114EL
designator *  value SQJQ114EL  Reference: Q
136A Id, 100V Vds, N-Channel TrenchFET MOSFET, 6.2mOhm Ron, 14nC Qqd, -55 to 175 °C, LFPAK88; ki_keywords: Power MOSFET N-MOS Automotive AEC-Q101 Logic-Level PowerPAK 8x8L; ki_fp_filters: LFPAK88*; Footprint: Package_TO_SOT_SMD:LFPAK88; Datasheet: https://www.vishay.com/docs/62161/sqjq114el.pdf; Description_: 136A Id, 100V Vds, N-Channel TrenchFET MOSFET, 6.2mOhm Ron, 14nC Qqd, -55 to 175 °C, LFPAK88
pins: 1 G (in), 2 S, 3 S, 4 S, 5 D

## SQJQ116EL
designator *  value SQJQ116EL  Reference: Q
61A Id, 100V Vds, N-Channel TrenchFET MOSFET, 10.3mOhm Ron, 12nC Qqd, -55 to 175 °C, LFPAK88; ki_keywords: Power MOSFET N-MOS Automotive AEC-Q101 Logic-Level PowerPAK 8x8L; ki_fp_filters: LFPAK88*; Footprint: Package_TO_SOT_SMD:LFPAK88; Datasheet: https://www.vishay.com/docs/62252/sqjq116el.pdf; Description_: 61A Id, 100V Vds, N-Channel TrenchFET MOSFET, 10.3mOhm Ron, 12nC Qqd, -55 to 175 °C, LFPAK88
pins: 1 G (in), 2 S, 3 S, 4 S, 5 D

## SQJQ130EL
designator *  value SQJQ130EL  Reference: Q
445A Id, 30V Vds, N-Channel TrenchFET MOSFET, 0.7mOhm Ron, 56nC Qqd, -55 to 175 °C, LFPAK88; ki_keywords: Power MOSFET N-MOS Automotive AEC-Q101 Logic-Level PowerPAK 8x8L; ki_fp_filters: LFPAK88*; Footprint: Package_TO_SOT_SMD:LFPAK88; Datasheet: https://www.vishay.com/docs/78005/sqjq130el.pdf; Description_: 445A Id, 30V Vds, N-Channel TrenchFET MOSFET, 0.7mOhm Ron, 56nC Qqd, -55 to 175 °C, LFPAK88
pins: 1 G (in), 2 S, 3 S, 4 S, 5 D

## SQJQ131EL
designator *  value SQJQ131EL  Reference: Q
-280A Id, 30V Vds, P-Channel MOSFET, 1.4mOhm Ron, 82nC Qgd, -55 to 175 °C, LFPAK88; ki_keywords: Power MOSFET P-MOS Automotive AEC-Q101 PowerPAK 8x8L; ki_fp_filters: LFPAK88*; Footprint: Package_TO_SOT_SMD:LFPAK88; Datasheet: https://www.vishay.com/docs/77936/sqjq131el.pdf; Description_: -280A Id, 30V Vds, P-Channel MOSFET, 1.4mOhm Ron, 82nC Qgd, -55 to 175 °C, LFPAK88
pins: 1 G (in), 2 S, 3 S, 4 S, 5 D

## SQJQ140E
designator *  value SQJQ140E  Reference: Q
701A Id, 40V Vds, N-Channel TrenchFET MOSFET, 0.53mOhm Ron, 41nC Qqd, -55 to 175 °C, LFPAK88; ki_keywords: Power MOSFET N-MOS Automotive AEC-Q101 PowerPAK 8x8L; ki_fp_filters: LFPAK88*; Footprint: Package_TO_SOT_SMD:LFPAK88; Datasheet: https://www.vishay.com/docs/79764/sqjq140e.pdf; Description_: 701A Id, 40V Vds, N-Channel TrenchFET MOSFET, 0.53mOhm Ron, 41nC Qqd, -55 to 175 °C, LFPAK88
pins: 1 G (in), 2 S, 3 S, 4 S, 5 D

## SQJQ142E
designator *  value SQJQ142E  Reference: Q
345A Id, 40V Vds, N-Channel TrenchFET MOSFET, 1.24mOhm Ron, 20.1nC Qqd, -55 to 175 °C, LFPAK88; ki_keywords: Power MOSFET N-MOS Automotive AEC-Q101 PowerPAK 8x8L; ki_fp_filters: LFPAK88*; Footprint: Package_TO_SOT_SMD:LFPAK88; Datasheet: https://www.vishay.com/docs/77320/sqjq142e.pdf; Description_: 345A Id, 40V Vds, N-Channel TrenchFET MOSFET, 1.24mOhm Ron, 20.1nC Qqd, -55 to 175 °C, LFPAK88
pins: 1 G (in), 2 S, 3 S, 4 S, 5 D

## SQJQ144AE
designator *  value SQJQ144AE  Reference: Q
575A Id, 40V Vds, N-Channel TrenchFET MOSFET, 0.9mOhm Ron, 25nC Qqd, -55 to 175 °C, LFPAK88; ki_keywords: Power MOSFET N-MOS Automotive AEC-Q101 PowerPAK 8x8L; ki_fp_filters: LFPAK88*; Footprint: Package_TO_SOT_SMD:LFPAK88; Datasheet: https://www.vishay.com/docs/77170/sqjq144ae.pdf; Description_: 575A Id, 40V Vds, N-Channel TrenchFET MOSFET, 0.9mOhm Ron, 25nC Qqd, -55 to 175 °C, LFPAK88
pins: 1 G (in), 2 S, 3 S, 4 S, 5 D

## SQJQ146E
designator *  value SQJQ146E  Reference: Q
487A Id, 40V Vds, N-Channel TrenchFET MOSFET, 0.7mOhm Ron, 33nC Qqd, -55 to 175 °C, LFPAK88; ki_keywords: Power MOSFET N-MOS Automotive AEC-Q101 PowerPAK 8x8L; ki_fp_filters: LFPAK88*; Footprint: Package_TO_SOT_SMD:LFPAK88; Datasheet: https://www.vishay.com/docs/62374/sqjq146e.pdf; Description_: 487A Id, 40V Vds, N-Channel TrenchFET MOSFET, 0.7mOhm Ron, 33nC Qqd, -55 to 175 °C, LFPAK88
pins: 1 G (in), 2 S, 3 S, 4 S, 5 D

## SQJQ148E
designator *  value SQJQ148E  Reference: Q
375A Id, 40V Vds, N-Channel TrenchFET MOSFET, 1.6mOhm Ron, 24nC Qqd, -55 to 175 °C, LFPAK88; ki_keywords: Power MOSFET N-MOS Automotive AEC-Q101 PowerPAK 8x8L LFPAK88; ki_fp_filters: LFPAK88*; Footprint: Package_TO_SOT_SMD:LFPAK88; Datasheet: https://www.vishay.com/docs/77269/sqjq148e.pdf; Description_: 375A Id, 40V Vds, N-Channel TrenchFET MOSFET, 1.6mOhm Ron, 24nC Qqd, -55 to 175 °C, LFPAK88
pins: 1 G (in), 2 S, 3 S, 4 S, 5 D

## SQJQ150E
designator *  value SQJQ150E  Reference: Q
233A Id, 40V Vds, N-Channel TrenchFET MOSFET, 1.9mOhm Ron, 17nC Qqd, -55 to 175 °C, LFPAK88; ki_keywords: Power MOSFET N-MOS Automotive AEC-Q101 PowerPAK 8x8L; ki_fp_filters: LFPAK88*; Footprint: Package_TO_SOT_SMD:LFPAK88; Datasheet: https://www.vishay.com/docs/77649/sqjq150e.pdf; Description_: 233A Id, 40V Vds, N-Channel TrenchFET MOSFET, 1.9mOhm Ron, 17nC Qqd, -55 to 175 °C, LFPAK88
pins: 1 G (in), 2 S, 3 S, 4 S, 5 D

## SQJQ160E
designator *  value SQJQ160E  Reference: Q
602A Id, 60V Vds, N-Channel TrenchFET MOSFET, 0.85mOhm Ron, 42nC Qqd, -55 to 175 °C, LFPAK88; ki_keywords: Power MOSFET N-MOS Automotive AEC-Q101 PowerPAK 8x8L; ki_fp_filters: LFPAK88*; Footprint: Package_TO_SOT_SMD:LFPAK88; Datasheet: https://www.vishay.com/docs/63059/sqjq160e.pdf; Description_: 602A Id, 60V Vds, N-Channel TrenchFET MOSFET, 0.85mOhm Ron, 42nC Qqd, -55 to 175 °C, LFPAK88
pins: 1 G (in), 2 S, 3 S, 4 S, 5 D

## SQJQ160EL
designator *  value SQJQ160EL  Reference: Q
461A Id, 60V Vds, N-Channel TrenchFET MOSFET, 1.1mOhm Ron, 31nC Qqd, -55 to 175 °C, LFPAK88; ki_keywords: Power MOSFET N-MOS Automotive AEC-Q101 Logic-Level PowerPAK 8x8L; ki_fp_filters: LFPAK88*; Footprint: Package_TO_SOT_SMD:LFPAK88; Datasheet: https://www.vishay.com/docs/62138/sqjq160el.pdf; Description_: 461A Id, 60V Vds, N-Channel TrenchFET MOSFET, 1.1mOhm Ron, 31nC Qqd, -55 to 175 °C, LFPAK88
pins: 1 G (in), 2 S, 3 S, 4 S, 5 D

## SQJQ184E
designator *  value SQJQ184E  Reference: Q
430A Id, 80V Vds, N-Channel TrenchFET MOSFET, 1.4mOhm Ron, 36nC Qqd, -55 to 175 °C, LFPAK88; ki_keywords: Power MOSFET N-MOS Automotive AEC-Q101 PowerPAK 8x8L; ki_fp_filters: LFPAK88*; Footprint: Package_TO_SOT_SMD:LFPAK88; Datasheet: https://www.vishay.com/docs/77102/sqjq184e.pdf; Description_: 430A Id, 80V Vds, N-Channel TrenchFET MOSFET, 1.4mOhm Ron, 36nC Qqd, -55 to 175 °C, LFPAK88
pins: 1 G (in), 2 S, 3 S, 4 S, 5 D

## SQJQ186E
designator *  value SQJQ186E  Reference: Q
245A Id, 80V Vds, N-Channel TrenchFET MOSFET, 2.3mOhm Ron, 26nC Qqd, -55 to 175 °C, LFPAK88; ki_keywords: Power MOSFET N-MOS Automotive AEC-Q101 PowerPAK 8x8L; ki_fp_filters: LFPAK88*; Footprint: Package_TO_SOT_SMD:LFPAK88; Datasheet: https://www.vishay.com/docs/62006/sqjq186e.pdf; Description_: 245A Id, 80V Vds, N-Channel TrenchFET MOSFET, 2.3mOhm Ron, 26nC Qqd, -55 to 175 °C, LFPAK88
pins: 1 G (in), 2 S, 3 S, 4 S, 5 D

## SQJQ402E
designator *  value SQJQ402E  Reference: Q
200A Id, 40V Vds, N-Channel TrenchFET MOSFET, 2mOhm Ron, 29nC Qqd, -55 to 175 °C, LFPAK88; ki_keywords: Power MOSFET N-MOS Automotive AEC-Q101 Logic-Level PowerPAK 8x8L; ki_fp_filters: LFPAK88*; Footprint: Package_TO_SOT_SMD:LFPAK88; Datasheet: https://www.vishay.com/docs/62748/sqjq402e.pdf; Description_: 200A Id, 40V Vds, N-Channel TrenchFET MOSFET, 2mOhm Ron, 29nC Qqd, -55 to 175 °C, LFPAK88
pins: 1 G (in), 2 S, 3 S, 4 S, 5 D

## SQJQ404E
designator *  value SQJQ404E  Reference: Q
200A Id, 40V Vds, N-Channel TrenchFET MOSFET, 1.72mOhm Ron, 27nC Qqd, -55 to 175 °C, LFPAK88; ki_keywords: Power MOSFET N-MOS Automotive AEC-Q101 PowerPAK 8x8L; ki_fp_filters: LFPAK88*; Footprint: Package_TO_SOT_SMD:LFPAK88; Datasheet: https://www.vishay.com/docs/76570/sqjq404e.pdf; Description_: 200A Id, 40V Vds, N-Channel TrenchFET MOSFET, 1.72mOhm Ron, 27nC Qqd, -55 to 175 °C, LFPAK88
pins: 1 G (in), 2 S, 3 S, 4 S, 5 D

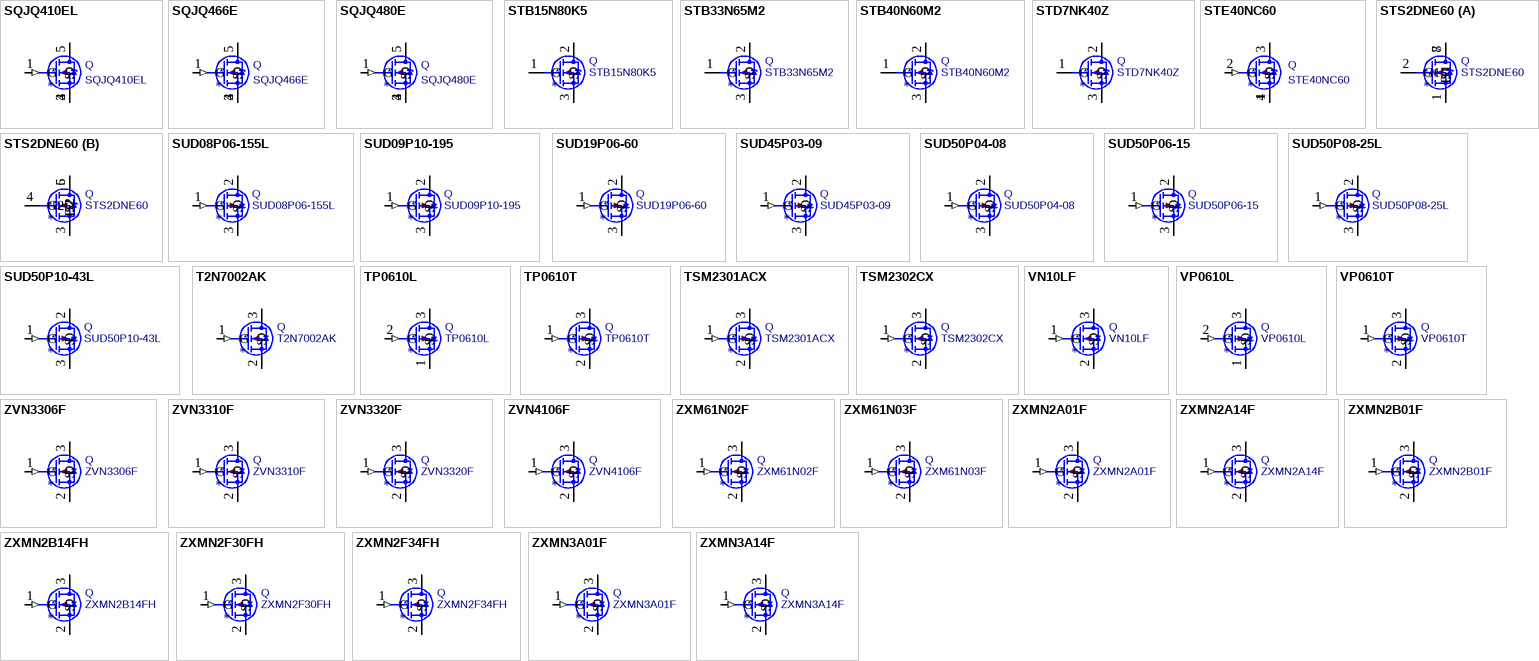
[diagram p15: symbols SQJQ410EL to ZXMN3A14F]

## SQJQ410EL
designator *  value SQJQ410EL  Reference: Q
135A Id, 100V Vds, N-Channel TrenchFET MOSFET, 4mOhm Ron, 20nC Qqd, -55 to 175 °C, LFPAK88; ki_keywords: Power MOSFET N-MOS Automotive AEC-Q101 Logic-Level PowerPAK 8x8L; ki_fp_filters: LFPAK88*; Footprint: Package_TO_SOT_SMD:LFPAK88; Datasheet: https://www.vishay.com/docs/76643/sqjq410el.pdf; Description_: 135A Id, 100V Vds, N-Channel TrenchFET MOSFET, 4mOhm Ron, 20nC Qqd, -55 to 175 °C, LFPAK88
pins: 1 G (in), 2 S, 3 S, 4 S, 5 D

## SQJQ466E
designator *  value SQJQ466E  Reference: Q
200A Id, 60V Vds, N-Channel TrenchFET MOSFET, 1.9mOhm Ron, 14nC Qqd, -55 to 175 °C, LFPAK88; ki_keywords: Power MOSFET N-MOS Automotive AEC-Q101 PowerPAK 8x8L; ki_fp_filters: LFPAK88*; Footprint: Package_TO_SOT_SMD:LFPAK88; Datasheet: https://www.vishay.com/docs/75138/sqjq466e.pdf; Description_: 200A Id, 60V Vds, N-Channel TrenchFET MOSFET, 1.9mOhm Ron, 14nC Qqd, -55 to 175 °C, LFPAK88
pins: 1 G (in), 2 S, 3 S, 4 S, 5 D

## SQJQ480E
designator *  value SQJQ480E  Reference: Q
150A Id, 80V Vds, N-Channel TrenchFET MOSFET, 3mOhm Ron, 21nC Qqd, -55 to 175 °C, LFPAK88; ki_keywords: Power MOSFET N-MOS Automotive AEC-Q101 PowerPAK 8x8L; ki_fp_filters: LFPAK88*; Footprint: Package_TO_SOT_SMD:LFPAK88; Datasheet: https://www.vishay.com/docs/76718/sqjq480e.pdf; Description_: 150A Id, 80V Vds, N-Channel TrenchFET MOSFET, 3mOhm Ron, 21nC Qqd, -55 to 175 °C, LFPAK88
pins: 1 G (in), 2 S, 3 S, 4 S, 5 D

## STB15N80K5
designator *  value STB15N80K5  Reference: Q
14A Id, 800V Vds, N-Channel MOSFET, 375mOhm Ron, D2PAK; ki_fp_filters: TO?263*; Footprint: Package_TO_SOT_SMD:TO-263-2; Datasheet: https://www.st.com/resource/en/datasheet/stb15n80k5.pdf; Description_: 14A Id, 800V Vds, N-Channel MOSFET, 375mOhm Ron, D2PAK; ki_keywords: N-Channel MOSFET
pins: 1 G, 2 D, 3 S

## STB33N65M2
designator *  value STB33N65M2  Reference: Q
24A Id, 650V Vds, N-Channel MDmesh M2 MOSFET, 140mOhm Ron, D2PAK; ki_keywords: N-Channel MOSFET; ki_fp_filters: TO?263*; Footprint: Package_TO_SOT_SMD:TO-263-2; Datasheet: https://www.st.com/resource/en/datasheet/stb33n65m2.pdf; Description_: 24A Id, 650V Vds, N-Channel MDmesh M2 MOSFET, 140mOhm Ron, D2PAK
pins: 1 G, 2 D, 3 S

## STB40N60M2
designator *  value STB40N60M2  Reference: Q
34A Id, 600V Vds, N-Channel MDmesh M2 MOSFET, 78mOhm Ron, D2PAK; ki_keywords: N-Channel MOSFET; ki_fp_filters: TO?263*; Footprint: Package_TO_SOT_SMD:TO-263-2; Datasheet: https://www.st.com/resource/en/datasheet/stp40n60m2.pdf; Description_: 34A Id, 600V Vds, N-Channel MDmesh M2 MOSFET, 78mOhm Ron, D2PAK
pins: 1 G, 2 D, 3 S

## STD7NK40Z
designator *  value STD7NK40Z  Reference: Q
5.4A Id, 400V Vds, N-Channel MOSFET, 1Ohm Ron, DPAK; ki_fp_filters: TO?252*; Footprint: Package_TO_SOT_SMD:TO-252-2; Datasheet: https://www.st.com/resource/en/datasheet/std7nk40zt4.pdf; Description_: 5.4A Id, 400V Vds, N-Channel MOSFET, 1Ohm Ron, DPAK; ki_keywords: N-Channel MOSFET
pins: 1 G, 2 D, 3 S

## STE40NC60
designator *  value STE40NC60  Reference: Q
PowerMesh II MOSFET, N-Channel, 600V Vds, 0.098Ω Rds(on), 40A Id, SOT-227 (minibloc, ISOTOP); ki_keywords: STMicroelectronics avalanche-tested power-mosfet; ki_fp_filters: *SOT*227*; Footprint: Package_TO_SOT_THT:SOT-227; Datasheet: https://www.st.com/resource/en/datasheet/ste40nc60.pdf; Description_: PowerMesh II MOSFET, N-Channel, 600V Vds, 0.098Ω Rds(on), 40A Id, SOT-227 (minibloc, ISOTOP)
pins: 1 S, 2 G (in), 3 D, 4 S

## STS2DNE60
designator *  value STS2DNE60  Reference: Q
2A Id, 60V Vds, Dual N-Channel MOSFET, 180mOhm Ron, SO-8; ki_fp_filters: SOIC*3.9x4.9mm*P1.27mm*; Footprint: Package_SO:SOIC-8_3.9x4.9mm_P1.27mm; Datasheet: https://www.st.com/resource/en/datasheet/CD00001537.pdf; Description_: 2A Id, 60V Vds, Dual N-Channel MOSFET, 180mOhm Ron, SO-8; ki_keywords: Dual N-Channel MOSFET
part A pins: 1 S1, 2 G1, 7 D1, 8 D1
part B pins: 3 S2, 4 G2, 5 D2, 6 D2

## SUD08P06-155L
designator *  value SUD08P06-155L  Reference: Q
-8.4A Id, -60V Vds, TrenchFET P-Channel Power MOSFET, 155mOhm Ron, 19nC Qg, -55 to 150 °C, TO-252-2; ki_fp_filters: TO?252*; Footprint: Package_TO_SOT_SMD:TO-252-2; Datasheet: https://www.vishay.com/docs/62843/sud08p06-155l-ge3.pdf; Description_: -8.4A Id, -60V Vds, TrenchFET P-Channel Power MOSFET, 155mOhm Ron, 19nC Qg, -55 to 150 °C, TO-252-2; ki_keywords: TrenchFET P-Channel Power MOSFET
pins: 1 G (in), 2 D, 3 S

## SUD09P10-195
designator *  value SUD09P10-195  Reference: Q
-8.8A Id, -100V Vds, TrenchFET P-Channel Power MOSFET, 195mOhm Ron, 34.8nC Qg, -55 to 150 °C, TO-252-2; ki_fp_filters: TO?252*; Footprint: Package_TO_SOT_SMD:TO-252-2; Datasheet: https://www.vishay.com/docs/65903/SUD09P10.pdf; Description_: -8.8A Id, -100V Vds, TrenchFET P-Channel Power MOSFET, 195mOhm Ron, 34.8nC Qg, -55 to 150 °C, TO-252-2; ki_keywords: TrenchFET P-Channel Power MOSFET
pins: 1 G (in), 2 D, 3 S

## SUD19P06-60
designator *  value SUD19P06-60  Reference: Q
-19A Id, -60V Vds, TrenchFET P-Channel Power MOSFET, 60mOhm Ron, 40nC Qg, -55 to 150 °C, TO-252-2; ki_fp_filters: TO?252*; Footprint: Package_TO_SOT_SMD:TO-252-2; Datasheet: https://www.vishay.com/docs/69253/sud19p06.pdf; Description_: -19A Id, -60V Vds, TrenchFET P-Channel Power MOSFET, 60mOhm Ron, 40nC Qg, -55 to 150 °C, TO-252-2; ki_keywords: TrenchFET P-Channel Power MOSFET
pins: 1 G (in), 2 D, 3 S

## SUD45P03-09
designator *  value SUD45P03-09  Reference: Q
-45A Id, -30V Vds, TrenchFET P-Channel Power MOSFET, 8.7mOhm Ron, 90nC Qg, -55 to 150 °C, TO-252-2; ki_fp_filters: TO?252*; Footprint: Package_TO_SOT_SMD:TO-252-2; Datasheet: https://www.vishay.com/docs/65595/sud45p03.pdf; Description_: -45A Id, -30V Vds, TrenchFET P-Channel Power MOSFET, 8.7mOhm Ron, 90nC Qg, -55 to 150 °C, TO-252-2; ki_keywords: TrenchFET P-Channel Power MOSFET
pins: 1 G (in), 2 D, 3 S

## SUD50P04-08
designator *  value SUD50P04-08  Reference: Q
-50A Id, -40V Vds, TrenchFET P-Channel Power MOSFET, 8.1mOhm Ron, 159nC Qg, -55 to 150 °C, TO-252-2; ki_fp_filters: TO?252*; Footprint: Package_TO_SOT_SMD:TO-252-2; Datasheet: https://www.vishay.com/docs/65594/sud50p04-08.pdf; Description_: -50A Id, -40V Vds, TrenchFET P-Channel Power MOSFET, 8.1mOhm Ron, 159nC Qg, -55 to 150 °C, TO-252-2; ki_keywords: TrenchFET P-Channel Power MOSFET
pins: 1 G (in), 2 D, 3 S

## SUD50P06-15
designator *  value SUD50P06-15  Reference: Q
-50A Id, -60V Vds, TrenchFET P-Channel Power MOSFET, 15mOhm Ron, 165nC Qg, -55 to 150 °C, TO-252-2; ki_fp_filters: TO?252*; Footprint: Package_TO_SOT_SMD:TO-252-2; Datasheet: https://www.vishay.com/docs/68940/sud50p06.pdf; Description_: -50A Id, -60V Vds, TrenchFET P-Channel Power MOSFET, 15mOhm Ron, 165nC Qg, -55 to 150 °C, TO-252-2; ki_keywords: TrenchFET P-Channel Power MOSFET
pins: 1 G (in), 2 D, 3 S

## SUD50P08-25L
designator *  value SUD50P08-25L  Reference: Q
-50A Id, -80V Vds, TrenchFET P-Channel Power MOSFET, 25.2mOhm Ron, 160nC Qg, -55 to 175 °C, TO-252-2; ki_fp_filters: TO?252*; Footprint: Package_TO_SOT_SMD:TO-252-2; Datasheet: https://www.vishay.com/docs/73443/sud50p08.pdf; Description_: -50A Id, -80V Vds, TrenchFET P-Channel Power MOSFET, 25.2mOhm Ron, 160nC Qg, -55 to 175 °C, TO-252-2; ki_keywords: TrenchFET P-Channel Power MOSFET
pins: 1 G (in), 2 D, 3 S